# Altium footprint library FPGA_MG.PcbLib: 34 footprints (part 4 of 4)
Each footprint in its own frame and in the unit in brackets; x right, y up, seen from the top. Pads: shape width x height; smd on the part's side, far side on the other; paste and mask are expansions set on the pad; w line width, h text height; cw(c..) or ccw(c..) is an arc to the next point about the centre after c.
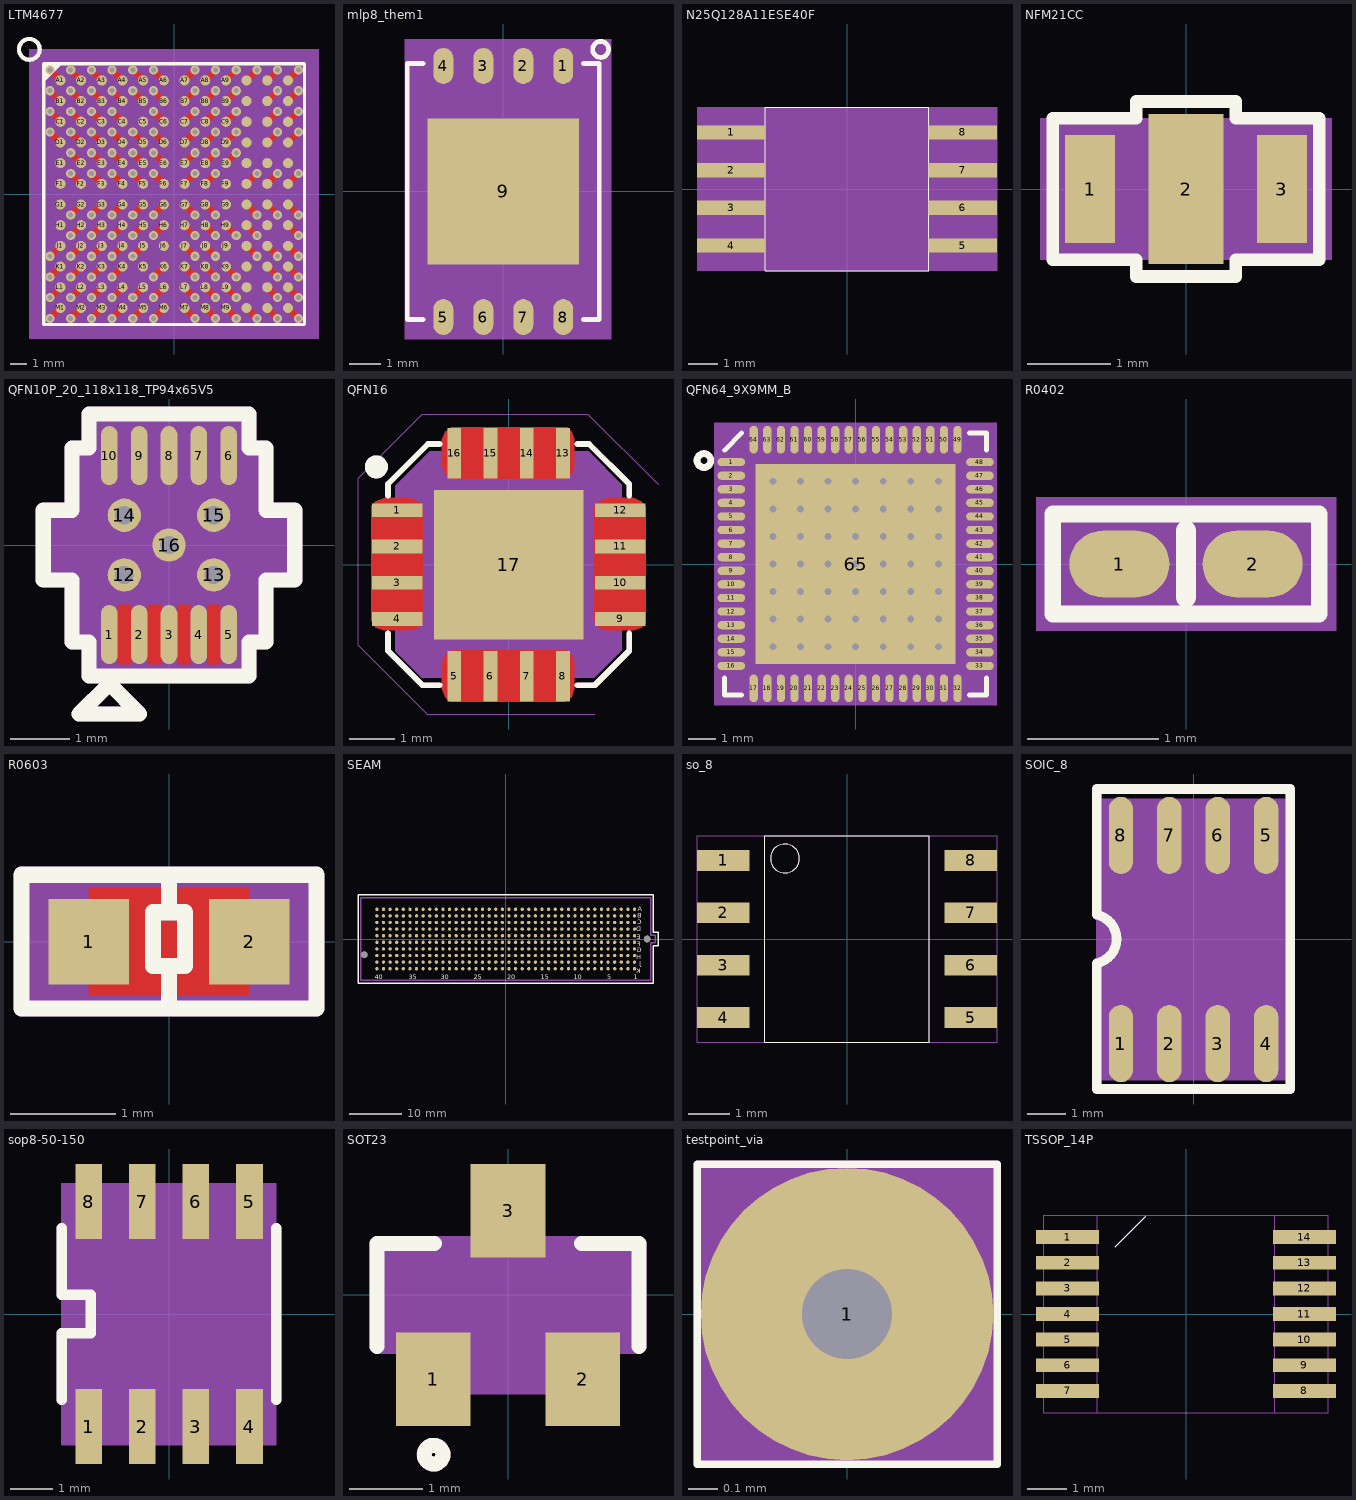
[diagram p3: the footprints below, top view; thin cyan lines are the x and y axes]

## LTM4677 [mm] "LTM4677"
pads (144):
  round 0.62 smd: A1(-6.985,6.985) A2(-5.715,6.985) A3(-4.445,6.985) A4(-3.175,6.985) A5(-1.905,6.985) A6(-0.635,6.985) A7(0.635,6.985) A8(1.905,6.985) A9(3.175,6.985) A10(4.445,6.985) A11(5.715,6.985) A12(6.985,6.985) B1(-6.985,5.715) B2(-5.715,5.715) B3(-4.445,5.715) B4(-3.175,5.715) B5(-1.905,5.715) B6(-0.635,5.715) B7(0.635,5.715) B8(1.905,5.715) B9(3.175,5.715) B10(4.445,5.715) B11(5.715,5.715) B12(6.985,5.715) C1(-6.985,4.445) C2(-5.715,4.445) C3(-4.445,4.445) C4(-3.175,4.445) C5(-1.905,4.445) C6(-0.635,4.445) C7(0.635,4.445) C8(1.905,4.445) C9(3.175,4.445) C10(4.445,4.445) C11(5.715,4.445) C12(6.985,4.445) D1(-6.985,3.175) D2(-5.715,3.175) D3(-4.445,3.175) D4(-3.175,3.175) D5(-1.905,3.175) D6(-0.635,3.175) D7(0.635,3.175) D8(1.905,3.175) D9(3.175,3.175) D10(4.445,3.175) D11(5.715,3.175) D12(6.985,3.175) E1(-6.985,1.905) E2(-5.715,1.905) E3(-4.445,1.905) E4(-3.175,1.905) E5(-1.905,1.905) E6(-0.635,1.905) E7(0.635,1.905) E8(1.905,1.905) E9(3.175,1.905) E10(4.445,1.905) E11(5.715,1.905) E12(6.985,1.905) F1(-6.985,0.635) F2(-5.715,0.635) F3(-4.445,0.635) F4(-3.175,0.635) F5(-1.905,0.635) F6(-0.635,0.635) F7(0.635,0.635) F8(1.905,0.635) F9(3.175,0.635) F10(4.445,0.635) F11(5.715,0.635) F12(6.985,0.635) G1(-6.985,-0.635) G2(-5.715,-0.635) G3(-4.445,-0.635) G4(-3.175,-0.635) G5(-1.905,-0.635) G6(-0.635,-0.635) G7(0.635,-0.635) G8(1.905,-0.635) G9(3.175,-0.635) G10(4.445,-0.635) G11(5.715,-0.635) G12(6.985,-0.635) H1(-6.985,-1.905) H2(-5.715,-1.905) H3(-4.445,-1.905) H4(-3.175,-1.905) H5(-1.905,-1.905) H6(-0.635,-1.905) H7(0.635,-1.905) H8(1.905,-1.905) H9(3.175,-1.905) H10(4.445,-1.905) H11(5.715,-1.905) H12(6.985,-1.905) J1(-6.985,-3.175) J2(-5.715,-3.175) J3(-4.445,-3.175) J4(-3.175,-3.175) J5(-1.905,-3.175) J6(-0.635,-3.175) J7(0.635,-3.175) J8(1.905,-3.175) J9(3.175,-3.175) J10(4.445,-3.175) J11(5.715,-3.175) J12(6.985,-3.175) K1(-6.985,-4.445) K2(-5.715,-4.445) K3(-4.445,-4.445) K4(-3.175,-4.445) K5(-1.905,-4.445) K6(-0.635,-4.445) K7(0.635,-4.445) K8(1.905,-4.445) K9(3.175,-4.445) K10(4.445,-4.445) K11(5.715,-4.445) K12(6.985,-4.445) L1(-6.985,-5.715) L2(-5.715,-5.715) L3(-4.445,-5.715) L4(-3.175,-5.715) L5(-1.905,-5.715) L6(-0.635,-5.715) L7(0.635,-5.715) L8(1.905,-5.715) L9(3.175,-5.715) L10(4.445,-5.715) L11(5.715,-5.715) L12(6.985,-5.715) M1(-6.985,-6.985) M2(-5.715,-6.985) M3(-4.445,-6.985) M4(-3.175,-6.985) M5(-1.905,-6.985) M6(-0.635,-6.985) M7(0.635,-6.985) M8(1.905,-6.985) M9(3.175,-6.985) M10(4.445,-6.985) M11(5.715,-6.985) M12(6.985,-6.985)
via -5.08,2.54 diameter 0.559 hole 0.305
via -5.08,1.27 diameter 0.559 hole 0.305
via -5.08,-1.27 diameter 0.559 hole 0.305
via -5.08,-2.54 diameter 0.559 hole 0.305
via 1.27,-1.27 diameter 0.559 hole 0.305
via 1.27,1.27 diameter 0.559 hole 0.305
via 3.81,2.54 diameter 0.559 hole 0.305
via -3.81,5.08 diameter 0.559 hole 0.305
via -3.81,3.81 diameter 0.559 hole 0.305
via 1.27,3.81 diameter 0.559 hole 0.305
via 2.54,-1.27 diameter 0.559 hole 0.305
via 2.54,1.27 diameter 0.559 hole 0.305
via -3.81,-5.08 diameter 0.559 hole 0.305
via -3.81,-3.81 diameter 0.559 hole 0.305
via 1.27,7.62 diameter 0.559 hole 0.305
via 5.08,7.62 diameter 0.559 hole 0.305
via 2.54,7.62 diameter 0.559 hole 0.305
via 3.81,7.62 diameter 0.559 hole 0.305
via -1.27,7.62 diameter 0.559 hole 0.305
via -3.81,7.62 diameter 0.559 hole 0.305
via 3.81,5.08 diameter 0.559 hole 0.305
via 2.54,5.08 diameter 0.559 hole 0.305
via 3.81,6.35 diameter 0.559 hole 0.305
via 2.54,6.35 diameter 0.559 hole 0.305
via 1.27,5.08 diameter 0.559 hole 0.305
via 1.27,6.35 diameter 0.559 hole 0.305
via -1.27,5.08 diameter 0.559 hole 0.305
via -1.27,6.35 diameter 0.559 hole 0.305
via -2.54,6.35 diameter 0.559 hole 0.305
via -3.81,6.35 diameter 0.559 hole 0.305
via 6.35,-1.27 diameter 0.559 hole 0.305
via 5.08,-1.27 diameter 0.559 hole 0.305
via 5.08,1.27 diameter 0.559 hole 0.305
via 7.62,-1.27 diameter 0.559 hole 0.305
via 5.08,-3.81 diameter 0.559 hole 0.305
via 5.08,-2.54 diameter 0.559 hole 0.305
via 5.08,-7.62 diameter 0.559 hole 0.305
via 3.81,-7.62 diameter 0.559 hole 0.305
via 2.54,-7.62 diameter 0.559 hole 0.305
via 1.27,-7.62 diameter 0.559 hole 0.305
via 3.81,-6.35 diameter 0.559 hole 0.305
via 2.54,-6.35 diameter 0.559 hole 0.305
via 1.27,-6.35 diameter 0.559 hole 0.305
via 3.81,-5.08 diameter 0.559 hole 0.305
via 2.54,-5.08 diameter 0.559 hole 0.305
via 1.27,-5.08 diameter 0.559 hole 0.305
via -3.81,-7.62 diameter 0.559 hole 0.305
via -2.54,-6.35 diameter 0.559 hole 0.305
via -3.81,-6.35 diameter 0.559 hole 0.305
via -1.27,-7.62 diameter 0.559 hole 0.305
via -1.27,-6.35 diameter 0.559 hole 0.305
via 6.35,7.62 diameter 0.559 hole 0.305
via 7.62,7.62 diameter 0.559 hole 0.305
via 7.62,3.81 diameter 0.559 hole 0.305
via 6.35,3.81 diameter 0.559 hole 0.305
via 7.62,5.08 diameter 0.559 hole 0.305
via 6.35,5.08 diameter 0.559 hole 0.305
via 7.62,6.35 diameter 0.559 hole 0.305
via 6.35,6.35 diameter 0.559 hole 0.305
via 7.62,1.27 diameter 0.559 hole 0.305
via 6.35,1.27 diameter 0.559 hole 0.305
via 7.62,-2.54 diameter 0.559 hole 0.305
via 6.35,-3.81 diameter 0.559 hole 0.305
via 7.62,-3.81 diameter 0.559 hole 0.305
via 6.35,-5.08 diameter 0.559 hole 0.305
via 7.62,-5.08 diameter 0.559 hole 0.305
via 6.35,-6.35 diameter 0.559 hole 0.305
via 7.62,-6.35 diameter 0.559 hole 0.305
via 6.35,-7.62 diameter 0.559 hole 0.305
via 7.62,-7.62 diameter 0.559 hole 0.305
via 1.27,2.54 diameter 0.559 hole 0.305
via 1.27,-2.54 diameter 0.559 hole 0.305
via 2.54,-2.54 diameter 0.559 hole 0.305
via 2.54,2.54 diameter 0.559 hole 0.305
via -1.27,2.54 diameter 0.559 hole 0.305
via -2.54,7.62 diameter 0.559 hole 0.305
via -3.81,-1.27 diameter 0.559 hole 0.305
via -6.35,-2.54 diameter 0.559 hole 0.305
via -2.54,-2.54 diameter 0.559 hole 0.305
via -1.27,-2.54 diameter 0.559 hole 0.305
via -6.35,-1.27 diameter 0.559 hole 0.305
via -6.35,2.54 diameter 0.559 hole 0.305
via 1.27,-3.81 diameter 0.559 hole 0.305
via -3.81,-2.54 diameter 0.559 hole 0.305
via -2.54,3.81 diameter 0.559 hole 0.305
via -6.35,1.27 diameter 0.559 hole 0.305
via -1.27,-5.08 diameter 0.559 hole 0.305
via -2.54,-1.27 diameter 0.559 hole 0.305
via -1.27,-1.27 diameter 0.559 hole 0.305
via 2.54,-3.81 diameter 0.559 hole 0.305
via -2.54,-3.81 diameter 0.559 hole 0.305
via 2.54,3.81 diameter 0.559 hole 0.305
via -1.27,3.81 diameter 0.559 hole 0.305
via -2.54,-7.62 diameter 0.559 hole 0.305
via -2.54,1.27 diameter 0.559 hole 0.305
via -2.54,2.54 diameter 0.559 hole 0.305
via -3.81,1.27 diameter 0.559 hole 0.305
via 3.81,-2.54 diameter 0.559 hole 0.305
via 3.81,3.81 diameter 0.559 hole 0.305
via -7.62,6.35 diameter 0.559 hole 0.305
via -6.35,6.35 diameter 0.559 hole 0.305
via -5.08,6.35 diameter 0.559 hole 0.305
via -7.62,5.08 diameter 0.559 hole 0.305
via -6.35,5.08 diameter 0.559 hole 0.305
via -5.08,5.08 diameter 0.559 hole 0.305
via -7.62,3.81 diameter 0.559 hole 0.305
via -6.35,3.81 diameter 0.559 hole 0.305
via -5.08,3.81 diameter 0.559 hole 0.305
via -5.08,7.62 diameter 0.559 hole 0.305
via -6.35,7.62 diameter 0.559 hole 0.305
via -7.62,7.62 diameter 0.559 hole 0.305
via -5.08,-7.62 diameter 0.559 hole 0.305
via -6.35,-7.62 diameter 0.559 hole 0.305
via -7.62,-7.62 diameter 0.559 hole 0.305
via -5.08,-6.35 diameter 0.559 hole 0.305
via -6.35,-6.35 diameter 0.559 hole 0.305
via -7.62,-6.35 diameter 0.559 hole 0.305
via -5.08,-5.08 diameter 0.559 hole 0.305
via -6.35,-5.08 diameter 0.559 hole 0.305
via -7.62,-5.08 diameter 0.559 hole 0.305
via -5.08,-3.81 diameter 0.559 hole 0.305
via -6.35,-3.81 diameter 0.559 hole 0.305
via -7.62,-3.81 diameter 0.559 hole 0.305
via -1.27,1.27 diameter 0.559 hole 0.305
via -3.81,2.54 diameter 0.559 hole 0.305
Top Layer:
  lines w0.381: -7.62,-7.62 -6.985,-6.985 ; -7.62,-6.35 -6.985,-5.715 ; -7.62,-5.08 -6.985,-4.445 ; -7.62,-3.81 -6.985,-3.175 ; -7.62,3.81 -6.985,3.175 ; -7.62,5.08 -6.985,4.445 ; -7.62,6.35 -6.985,5.715 ; -7.62,7.62 -6.985,6.985 ; -6.35,-7.62 -5.715,-6.985 ; -6.35,-6.35 -5.715,-5.715 ; -6.35,-5.08 -5.715,-4.445 ; -6.35,-3.81 -5.715,-3.175 ; -6.35,-2.54 -5.715,-1.905 ; -6.35,-1.27 -5.715,-0.635 ; -6.35,1.27 -5.715,0.635 ; -6.35,2.54 -5.715,1.905 ; -6.35,3.81 -5.715,3.175 ; -6.35,5.08 -5.715,4.445 ; -6.35,6.35 -5.715,5.715 ; -6.35,7.62 -5.715,6.985 ; -5.08,-7.62 -4.445,-6.985 ; -5.08,-6.35 -4.445,-5.715 ; -5.08,-5.08 -4.445,-4.445 ; -5.08,-3.81 -4.445,-3.175 ; -5.08,-2.54 -4.445,-1.905 ; -5.08,-1.27 -4.445,-0.635 ; -5.08,1.27 -4.445,0.635 ; -5.08,2.54 -4.445,1.905 ; -5.08,3.81 -4.445,3.175 ; -5.08,5.08 -4.445,4.445 ; -5.08,6.35 -4.445,5.715 ; -5.08,7.62 -4.445,6.985 ; -3.81,-7.62 -3.175,-6.985 ; -3.81,-6.35 -3.175,-5.715 ; -3.81,-5.08 -3.175,-4.445 ; -3.81,-3.81 -3.175,-3.175 ; -3.81,-2.54 -3.175,-1.905 ; -3.81,-1.27 -3.175,-0.635 ; -3.81,1.27 -3.175,0.635 ; -3.81,2.54 -3.175,1.905 ; -3.81,3.81 -3.175,3.175 ; -3.81,5.08 -3.175,4.445 ; -3.81,6.35 -3.175,5.715 ; -3.81,7.62 -3.175,6.985 ; -2.54,-7.62 -1.905,-6.985 ; -2.54,-6.35 -1.905,-5.715 ; -2.54,-3.81 -1.905,-3.175 ; -2.54,-2.54 -1.905,-1.905 ; -2.54,-1.27 -1.905,-0.635 ; -2.54,1.27 -1.905,0.635 ; -2.54,2.54 -1.905,1.905 ; -2.54,3.81 -1.905,3.175 ; -2.54,6.35 -1.905,5.715 ; -2.54,7.62 -1.905,6.985 ; -1.27,-7.62 -0.635,-6.985 ; -1.27,-6.35 -0.635,-5.715 ; -1.27,-5.08 -0.635,-4.445 ; -1.27,-2.54 -0.635,-1.905 ; -1.27,-1.27 -0.635,-0.635 ; -1.27,1.27 -0.635,0.635 ; -1.27,2.54 -0.635,1.905 ; -1.27,3.81 -0.635,3.175 ; -1.27,5.08 -0.635,4.445 ; -1.27,6.35 -0.635,5.715 ; -1.27,7.62 -0.635,6.985 ; 0.635,-6.985 1.27,-7.62 ; 0.635,-5.715 1.27,-6.35 ; 0.635,-4.445 1.27,-5.08 ; 0.635,-3.175 1.27,-3.81 ; 0.635,-1.905 1.27,-2.54 ; 0.635,-0.635 1.27,-1.27 ; 0.635,0.635 1.27,1.27 ; 0.635,1.905 1.27,2.54 ; 0.635,3.175 1.27,3.81 ; 0.635,4.445 1.27,5.08 ; 0.635,5.715 1.27,6.35 ; 0.635,6.985 1.27,7.62 ; 1.905,-6.985 2.54,-7.62 ; 1.905,-5.715 2.54,-6.35 ; 1.905,-4.445 2.54,-5.08 ; 1.905,-3.175 2.54,-3.81 ; 1.905,-1.905 2.54,-2.54 ; 1.905,-0.635 2.54,-1.27 ; 1.905,0.635 2.54,1.27 ; 1.905,1.905 2.54,2.54 ; 1.905,3.175 2.54,3.81 ; 1.905,4.445 2.54,5.08 ; 1.905,5.715 2.54,6.35 ; 1.905,6.985 2.54,7.62 ; 3.175,-6.985 3.81,-7.62 ; 3.175,-5.715 3.81,-6.35 ; 3.175,-4.445 3.81,-5.08 ; 3.175,-1.905 3.81,-2.54 ; 3.175,1.905 3.81,2.54 ; 3.175,3.175 3.81,3.81 ; 3.175,4.445 3.81,5.08 ; 3.175,5.715 3.81,6.35 ; 3.175,6.985 3.81,7.62 ; 4.445,-6.985 5.08,-7.62 ; 4.445,-3.175 5.08,-3.81 ; 4.445,-1.905 5.08,-2.54 ; 4.445,-0.635 5.08,-1.27 ; 4.445,0.635 5.08,1.27 ; 4.445,6.985 5.08,7.62 ; 5.715,-6.985 6.35,-7.62 ; 5.715,-5.715 6.35,-6.35 ; 5.715,-4.445 6.35,-5.08 ; 5.715,-3.175 6.35,-3.81 ; 5.715,-0.635 6.35,-1.27 ; 5.715,0.635 6.35,1.27 ; 5.715,3.175 6.35,3.81 ; 5.715,4.445 6.35,5.08 ; 5.715,5.715 6.35,6.35 ; 5.715,6.985 6.35,7.62 ; 6.985,-6.985 7.62,-7.62 ; 6.985,-5.715 7.62,-6.35 ; 6.985,-4.445 7.62,-5.08 ; 6.985,-3.175 7.62,-3.81 ; 6.985,-1.905 7.62,-2.54 ; 6.985,-0.635 7.62,-1.27 ; 6.985,0.635 7.62,1.27 ; 6.985,3.175 7.62,3.81 ; 6.985,4.445 7.62,5.08 ; 6.985,5.715 7.62,6.35 ; 6.985,6.985 7.62,7.62
Top Overlay:
  pour cut-out: -8,8 -6.857,8 -8,6.857
  lines w0.2: -8,-8 8,-8 8,8 -8,8 -8,-8
  lines w0.254: -9.525,8.89 ccw(c-8.89,8.89) -8.89,8.255 ccw(c-8.89,8.89) -8.255,8.89 ccw(c-8.89,8.89) -8.89,9.525 ccw(c-8.89,8.89) -9.525,8.89
  text ".Designator" at -8.466,-0.002 h0.64
Mechanical 5:
  lines w0.2: -8,-8 8,-8 8,8 -8,8 -8,-8
  lines w0.254: -9.525,8.89 cw(c-8.89,8.89) -8.89,9.525 cw(c-8.89,8.89) -8.255,8.89 cw(c-8.89,8.89) -8.89,8.255 cw(c-8.89,8.89) -9.525,8.89
  text "U100" at -8.466,-0.002 h0.64
Mechanical 14:
  text "B6" at -0.635,5.207 h0.64
  text "E3" at -4.445,1.397 h0.64
  text "F3" at -4.445,0.127 h0.64
  text "G3" at -4.445,-1.143 h0.64
  text "H3" at -4.445,-2.413 h0.64
  text "G7" at 0.635,-1.143 h0.64
  text "F7" at 0.635,0.127 h0.64
  text "E9" at 3.175,1.397 h0.64
  text "C4" at -3.175,3.937 h0.64
  text "D4" at -3.175,2.667 h0.64
  text "D7" at 0.635,2.667 h0.64
  text "G8" at 1.905,-1.143 h0.64
  text "F8" at 1.905,0.127 h0.64
  text "K4" at -3.175,-4.953 h0.64
  text "J4" at -3.175,-3.683 h0.64
  text "A7" at 0.635,6.477 h0.64
  text "A10" at 4.445,6.223 h0.64
  text "A8" at 1.905,6.477 h0.64
  text "A9" at 3.175,6.477 h0.64
  text "A6" at -0.635,6.477 h0.64
  text "A4" at -3.175,6.477 h0.64
  text "C9" at 3.175,3.937 h0.64
  text "C8" at 1.905,3.937 h0.64
  text "B9" at 3.175,5.207 h0.64
  text "B8" at 1.905,5.207 h0.64
  text "C7" at 0.635,3.937 h0.64
  text "B7" at 0.635,5.207 h0.64
  text "C6" at -0.635,3.937 h0.64
  text "B5" at -1.905,5.207 h0.64
  text "B4" at -3.175,5.207 h0.64
  text "G11" at 5.715,-1.397 h0.64
  text "G10" at 4.445,-1.397 h0.64
  text "F10" at 4.445,-0.127 h0.64
  text "G12" at 6.985,-1.397 h0.64
  text "J10" at 4.445,-3.937 h0.64
  text "H10" at 4.445,-2.667 h0.64
  text "M10" at 4.445,-7.747 h0.64
  text "M9" at 3.175,-7.493 h0.64
  text "M8" at 1.905,-7.493 h0.64
  text "M7" at 0.635,-7.493 h0.64
  text "L9" at 3.175,-6.223 h0.64
  text "L8" at 1.905,-6.223 h0.64
  text "L7" at 0.635,-6.223 h0.64
  text "K9" at 3.175,-4.953 h0.64
  text "K8" at 1.905,-4.953 h0.64
  text "K7" at 0.635,-4.953 h0.64
  text "M4" at -3.175,-7.493 h0.64
  text "L5" at -1.905,-6.223 h0.64
  text "L4" at -3.175,-6.223 h0.64
  text "M6" at -0.635,-7.493 h0.64
  text "L6" at -0.635,-6.223 h0.64
  text "A11" at 5.715,6.223 h0.64
  text "A12" at 6.985,6.223 h0.64
  text "D12" at 6.985,2.413 h0.64
  text "D11" at 5.715,2.413 h0.64
  text "C12" at 6.985,3.683 h0.64
  text "C11" at 5.715,3.683 h0.64
  text "B12" at 6.985,4.953 h0.64
  text "B11" at 5.715,4.953 h0.64
  text "F12" at 6.985,-0.127 h0.64
  text "F11" at 5.715,-0.127 h0.64
  text "E12" at 6.985,1.143 h0.64
  text "H12" at 6.985,-2.667 h0.64
  text "J11" at 5.715,-3.937 h0.64
  text "J12" at 6.985,-3.937 h0.64
  text "K11" at 5.715,-5.207 h0.64
  text "K12" at 6.985,-5.207 h0.64
  text "L11" at 5.715,-6.477 h0.64
  text "L12" at 6.985,-6.477 h0.64
  text "M11" at 5.715,-7.747 h0.64
  text "M12" at 6.985,-7.747 h0.64
  text "E7" at 0.635,1.397 h0.64
  text "H7" at 0.635,-2.413 h0.64
  text "H8" at 1.905,-2.413 h0.64
  text "E8" at 1.905,1.397 h0.64
  text "E6" at -0.635,1.397 h0.64
  text "A5" at -1.905,6.477 h0.64
  text "G4" at -3.175,-1.143 h0.64
  text "H1" at -6.985,-2.413 h0.64
  text "H2" at -5.715,-2.413 h0.64
  text "H5" at -1.905,-2.413 h0.64
  text "H6" at -0.635,-2.413 h0.64
  text "G1" at -6.985,-1.143 h0.64
  text "G2" at -5.715,-1.143 h0.64
  text "E1" at -6.985,1.397 h0.64
  text "E2" at -5.715,1.397 h0.64
  text "J7" at 0.635,-3.683 h0.64
  text "H4" at -3.175,-2.413 h0.64
  text "D5" at -1.905,2.667 h0.64
  text "C5" at -1.905,3.937 h0.64
  text "F1" at -6.985,0.127 h0.64
  text "F2" at -5.715,0.127 h0.64
  text "K6" at -0.635,-4.953 h0.64
  text "G5" at -1.905,-1.143 h0.64
  text "G6" at -0.635,-1.143 h0.64
  text "J8" at 1.905,-3.683 h0.64
  text "J5" at -1.905,-3.683 h0.64
  text "K5" at -1.905,-4.953 h0.64
  text "D8" at 1.905,2.667 h0.64
  text "D6" at -0.635,2.667 h0.64
  text "M5" at -1.905,-7.493 h0.64
  text "F5" at -1.905,0.127 h0.64
  text "E5" at -1.905,1.397 h0.64
  text "J9" at 3.175,-3.683 h0.64
  text "E10" at 4.445,1.143 h0.64
  text "D10" at 4.445,2.413 h0.64
  text "J6" at -0.635,-3.683 h0.64
  text "L10" at 4.445,-6.477 h0.64
  text "B10" at 4.445,4.953 h0.64
  text "G9" at 3.175,-1.143 h0.64
  text "F9" at 3.175,0.127 h0.64
  text "K10" at 4.445,-5.207 h0.64
  text "H11" at 5.715,-2.667 h0.64
  text "E11" at 5.715,1.143 h0.64
  text "C10" at 4.445,3.683 h0.64
  text "F4" at -3.175,0.127 h0.64
  text "H9" at 3.175,-2.413 h0.64
  text "D9" at 3.175,2.667 h0.64
  text "B1" at -6.985,5.207 h0.64
  text "B2" at -5.715,5.207 h0.64
  text "B3" at -4.445,5.207 h0.64
  text "C1" at -6.985,3.937 h0.64
  text "C2" at -5.715,3.937 h0.64
  text "C3" at -4.445,3.937 h0.64
  text "D1" at -6.985,2.667 h0.64
  text "D2" at -5.715,2.667 h0.64
  text "D3" at -4.445,2.667 h0.64
  text "A3" at -4.445,6.477 h0.64
  text "A2" at -5.715,6.477 h0.64
  text "A1" at -6.985,6.477 h0.64
  text "M3" at -4.445,-7.493 h0.64
  text "M2" at -5.715,-7.493 h0.64
  text "M1" at -6.985,-7.493 h0.64
  text "L3" at -4.445,-6.223 h0.64
  text "L2" at -5.715,-6.223 h0.64
  text "L1" at -6.985,-6.223 h0.64
  text "K3" at -4.445,-4.953 h0.64
  text "K2" at -5.715,-4.953 h0.64
  text "K1" at -6.985,-4.953 h0.64
  text "J3" at -4.445,-3.683 h0.64
  text "J2" at -5.715,-3.683 h0.64
  text "J1" at -6.985,-3.683 h0.64
  text "F6" at -0.635,0.127 h0.64
  text "E4" at -3.175,1.397 h0.64
Mechanical 16:
  region: -8.89,-8.89 -8.89,8.89 8.89,8.89 8.89,-8.89
  pour cut-out: -8.25,-8.25 -8.25,8.25 8.25,8.25 8.25,-8.25
  pour cut-out: -8,8 -6.857,8 -8,6.857
  lines w0.1: -8,-8 8,-8 8,8 -8,8 -8,-8
Mechanical 17:
  text "LTM4677IY" at 0,5.334 h0.64
3D body: height 3.81, standoff 0, extent -8.89,-8.89 8.89,8.89

## mlp8_them1 [mil] "MLP8_THEM1"
pads (9):
  oval 25x45 smd: 1(75,157) 2(25,157) 3(-25,157) 4(-75,157) 5(-75,-157) 6(-25,-157) 7(25,-157) 8(75,-157)
  rect 188.98x183.07 smd: 9(0,0)
Top Overlay:
  lines w6: -100,-160 -120,-160 -120,160 -100,160 ; 100,-160 120,-160 120,160 100,160 ; 111.81,177.66 ccw(c121.81,177.66) 121.81,167.66 ccw(c121.81,177.66) 131.81,177.66 ccw(c121.81,177.66) 121.81,187.66 ccw(c121.81,177.66) 111.81,177.66
Mechanical 5:
  lines w6: -100,-160 -120,-160 -120,160 -100,160 ; 100,-160 120,-160 120,160 100,160 ; 111.81,177.66 cw(c121.81,177.66) 121.81,187.66 cw(c121.81,177.66) 131.81,177.66 cw(c121.81,177.66) 121.81,167.66 cw(c121.81,177.66) 111.81,177.66
Mechanical 14:
  text "9" at 0,-20 h25
  text "4" at -75,153 h10
  text "6" at -25,-161 h10
  text "2" at 25,153 h10
  text "7" at 25,-161 h10
  text "5" at -75,-161 h10
  text "1" at 75,153 h10
  text "3" at -25,153 h10
  text "8" at 75,-161 h10
Mechanical 16:
  region: -123,-184.5 134.81,-184.5 134.81,190.66 -123,190.66
  lines w6: -100,-160 -120,-160 -120,160 -100,160 ; 100,-160 120,-160 120,160 100,160
3D body: height 150, standoff 0, extent -123,-184.5 134.81,190.66

## N25Q128A11ESE40F [mm] "N25Q128A11ESE40F"
pads (8):
  rect 2.3x0.48 smd: 1(-3.9,1.905) 2(-3.9,0.635) 3(-3.9,-0.635) 4(-3.9,-1.905) 5(3.9,-1.905) 6(3.9,-0.635) 7(3.9,0.635) 8(3.9,1.905)
Top Overlay:
  lines w0.025: -2.75,-2.75 2.75,-2.75 2.75,2.75 -2.75,2.75 -2.75,-2.75
Mechanical 14:
  text "8" at 3.697,1.905 h0.51
  text "5" at 3.697,-1.905 h0.51
  text "2" at -4.103,0.635 h0.51
  text "6" at 3.697,-0.635 h0.51
  text "7" at 3.697,0.635 h0.51
  text "3" at -4.103,-0.635 h0.51
  text "1" at -4.103,1.905 h0.51
  text "4" at -4.103,-1.905 h0.51
Mechanical 16:
  pour cut-out: -5.055,-2.75 -5.055,2.75 5.055,2.75 5.055,-2.75
  region: -5.055,-2.75 -5.055,2.75 5.055,2.75 5.055,-2.75
  lines w0.025: -2.75,-2.75 2.75,-2.75 2.75,2.75 -2.75,2.75 -2.75,-2.75
Mechanical 20:
  text ".Designator" at -0.144,0 h0.13
3D body: height 3.81, standoff 0, extent -5.055,-2.75 5.055,2.75

## NFM21CC [mm] "NFM21CC"
pads (3):
  rect 0.6x1.3 smd: 1(-1.15,0) 3(1.15,0)
  rect 0.9x1.8 smd: 2(0,0)
Top Overlay:
  lines w0.15: -1.6,-0.85 -0.6,-0.85 -0.6,-1.05 0.6,-1.05 0.6,-0.85 1.6,-0.85 1.6,0.85 0.6,0.85 0.6,1.05 -0.6,1.05 -0.6,0.85 -1.6,0.85 -1.6,-0.85
Mechanical 14:
  text "2" at 0,-0.203 h0.25
  text "1" at -1.15,-0.203 h0.25
  text "3" at 1.15,-0.203 h0.25
Mechanical 16:
  region: -1.75,0.85 -1.75,-0.85 1.75,-0.85 1.75,0.85
3D body: height 3.81, standoff 0, extent -1.75,-0.85 1.75,0.85

## QFN10P_20_118x118_TP94x65V5 [mil] "QFN10P_20_118X118_TP94X65V5"
pads (16):
  oval 11x39 smd: 1(-39.37,-59.06) 2(-19.69,-59.06) 3(0,-59.06) 4(19.69,-59.06) 5(39.37,-59.06) 6(39.37,59.06) 7(19.69,59.06) 8(0,59.06) 9(-19.69,59.06) 10(-39.37,59.06)
  oct 1x1 smd: 11(0,0)
  round 22 hole 12: 12(-29.53,-19.69) 13(29.53,-19.69) 14(-29.53,19.69) 15(29.53,19.69) 16(0,0)
Top Layer:
  region: -33.87,-78.56 -29.53,-78.56 -29.53,-39.56 -33.87,-39.56
  region: -29.53,-78.56 -25.19,-78.56 -25.19,-39.56 -29.53,-39.56
  region: -14.19,-78.56 -9.85,-78.56 -9.85,-39.56 -14.19,-39.56
  region: -9.84,-78.56 -5.5,-78.56 -5.5,-39.56 -9.84,-39.56
  region: 5.5,-78.56 9.84,-78.56 9.84,-39.56 5.5,-39.56
  region: 9.85,-78.56 14.19,-78.56 14.19,-39.56 9.85,-39.56
  region: 25.19,-78.56 29.53,-78.56 29.53,-39.56 25.19,-39.56
  region: 29.53,-78.56 33.87,-78.56 33.87,-39.56 29.53,-39.56
Top Overlay:
  lines w10: -83,-23 -64.06,-23 -64.06,-64.06 -52.87,-64.06 -52.87,-86.56 52.87,-86.56 52.87,-64.06 64.06,-64.06 64.06,-23 83,-23 83,23 64.06,23 64.06,64.06 52.87,64.06 52.87,86.56 -52.87,86.56 -52.87,64.06 -64.06,64.06 -64.06,23 -83,23 -83,-23 ; -59.37,-111.56 -19.37,-111.56 -39.37,-91.56 -59.37,-111.56
Mechanical 5:
  lines w10: -83,-23 -83,23 -64.06,23 -64.06,64.06 -52.87,64.06 -52.87,86.56 52.87,86.56 52.87,64.06 64.06,64.06 64.06,23 83,23 83,-23 64.06,-23 64.06,-64.06 52.87,-64.06 52.87,-86.56 -52.87,-86.56 -52.87,-64.06 -64.06,-64.06 -64.06,-23 -83,-23 ; -59.37,-111.56 -39.37,-91.56 -19.37,-111.56 -59.37,-111.56
Mechanical 14:
  text "11" at 22.4,0 h28
  text "12" at -7.13,-19.69 h28
  text "15" at 51.93,19.69 h28
  text "16" at 22.4,0 h28
  text "14" at -7.13,19.69 h28
  text "13" at 51.93,-19.69 h28
  text "8" at 11.2,59.06 h28
  text "4" at 30.89,-59.06 h28
  text "10" at -16.97,59.06 h28
  text "6" at 50.57,59.06 h28
  text "5" at 50.57,-59.06 h28
  text "3" at 11.2,-59.06 h28
  text "2" at -8.49,-59.06 h28
  text "9" at -8.49,59.06 h28
  text "7" at 30.89,59.06 h28
  text "1" at -28.17,-59.06 h28
Mechanical 16:
  region: -59.06,-59.06 59.06,-59.06 59.06,59.06 -59.06,59.06
  pour cut-out: 52.87,86.56 52.87,64.06 64.06,64.06 64.06,23 83,23 83,-23 64.06,-23 64.06,-64.06 52.87,-64.06 52.87,-86.56 -52.87,-86.56 -52.87,-64.06 -64.06,-64.06 -64.06,-23 -83,-23 -83,23 -64.06,23 -64.06,64.06 -52.87,64.06 -52.87,86.56
  lines w1: -59.06,-59.06 59.06,-59.06 59.06,59.06 -59.06,59.06 -59.06,-59.06
Mechanical 17:
  text ".Designator" at 6,1.67 h5
3D body: height 150, standoff 0, extent -59.06,-59.06 59.06,59.06

## QFN16 [mil] "QFN16"
pads (17):
  rect 44x12 smd: 1(-97,47.24) 2(-97,15.75) 3(-97,-15.75) 4(-97,-47.24) 9(97,-47.24) 10(97,-15.75) 11(97,15.75) 12(97,47.24)
  rect 12x44 smd: 5(-47.24,-97) 6(-15.75,-97) 7(15.75,-97) 8(47.24,-97) 13(47.24,97) 14(15.75,97) 15(-15.75,97) 16(-47.24,97)
  rect 130x130 smd: 17(0,0)
Top Layer:
  region: -74.5,50 -74.5,-51 -78.5,-55 -84.5,-57 -108.5,-57 -115.5,-55 -119.5,-49 -119.5,51 -115.5,55 -107.5,58 -85.5,58 -78.5,55
  region: 119.5,50 119.5,-51 115.5,-55 109.5,-57 85.5,-57 78.5,-55 74.5,-49 74.5,51 78.5,55 86.5,58 108.5,58 115.5,55
  region: -50,-74.5 51,-74.5 55,-78.5 57,-84.5 57,-108.5 55,-115.5 49,-119.5 -51,-119.5 -55,-115.5 -58,-107.5 -58,-85.5 -55,-78.5
  region: -50,119.5 51,119.5 55,115.5 57,109.5 57,85.5 55,78.5 49,74.5 -51,74.5 -55,78.5 -58,86.5 -58,108.5 -55,115.5
Top Overlay:
  circle w10: c-115,85 r5
  lines w5: -105,-60 -105,-75 -75,-105 -60,-105 ; -105,60 -105,70 -70,105 -60,105 ; 60,-105 75,-105 105,-75 105,-60 ; 60,105 70,105 105,70 105,60
Mechanical 5:
  circle w10: c-115,85 r5
  lines w5: -105,-60 -105,-75 -75,-105 -60,-105 ; -105,60 -105,70 -70,105 -60,105 ; 60,-105 75,-105 105,-75 105,-60 ; 60,105 70,105 105,70 105,60
Mechanical 14:
  text "1" at -65,47.24 h80
  text "2" at -65,15.75 h80
  text "3" at -65,-15.75 h80
  text "4" at -65,-47.24 h80
  text "5" at -15.24,-97 h80
  text "6" at 16.25,-97 h80
  text "7" at 47.75,-97 h80
Mechanical 16:
  region: 98.43,-74.58 75,-98 74.58,-98.43 -75.58,-98.43 -76,-98 -98.43,-75.58 -98.43,68.58 -98,69 -68.58,98.43 69.58,98.43 70,98 98.43,69.58
  lines w1: 75,-130 -71,-130 -71.49,-129.48 -131,-70 -131,75 -75,131 -65,131 69,131 130,70
Mechanical 17:
  text ".Designator" at 6,-1.67 h5
3D body: height 150, standoff 0, extent -98.43,-98.43 98.43,98.43

## QFN64_9X9MM_B [mil] "QFN64_9X9MM_B"
pads (65):
  oval 40x12 smd: 1(-180.3,147.75) 2(-180.3,128.05) 3(-180.3,108.35) 4(-180.3,88.65) 5(-180.3,68.95) 6(-180.3,49.25) 7(-180.3,29.55) 8(-180.3,9.85) 9(-180.3,-9.85) 10(-180.3,-29.55) 11(-180.3,-49.25) 12(-180.3,-68.95) 13(-180.3,-88.65) 14(-180.3,-108.35) 15(-180.3,-128.05) 16(-180.3,-147.75) 33(180.3,-147.75) 34(180.3,-128.05) 35(180.3,-108.35) 36(180.3,-88.65) 37(180.3,-68.95) 38(180.3,-49.25) 39(180.3,-29.55) 40(180.3,-9.85) 41(180.3,9.85) 42(180.3,29.55) 43(180.3,49.25) 44(180.3,68.95) 45(180.3,88.65) 46(180.3,108.35) 47(180.3,128.05) 48(180.3,147.75)
  oval 12x40 smd: 17(-147.75,-180.3) 18(-128.05,-180.3) 19(-108.35,-180.3) 20(-88.65,-180.3) 21(-68.95,-180.3) 22(-49.25,-180.3) 23(-29.55,-180.3) 24(-9.85,-180.3) 25(9.85,-180.3) 26(29.55,-180.3) 27(49.25,-180.3) 28(68.95,-180.3) 29(88.65,-180.3) 30(108.35,-180.3) 31(128.05,-180.3) 32(147.75,-180.3) 49(147.75,180.3) 50(128.05,180.3) 51(108.35,180.3) 52(88.65,180.3) 53(68.95,180.3) 54(49.25,180.3) 55(29.55,180.3) 56(9.85,180.3) 57(-9.85,180.3) 58(-29.55,180.3) 59(-49.25,180.3) 60(-68.95,180.3) 61(-88.65,180.3) 62(-108.35,180.3) 63(-128.05,180.3) 64(-147.75,180.3)
  rect 290x290 smd: 65(0,0)
via 120,-120 diameter 18 hole 10
via 80,120 diameter 18 hole 10
via 80,80 diameter 18 hole 10
via 80,40 diameter 18 hole 10
via 80,0 diameter 18 hole 10
via 80,-40 diameter 18 hole 10
via 80,-80 diameter 18 hole 10
via 80,-120 diameter 18 hole 10
via 40,-120 diameter 18 hole 10
via 0,-120 diameter 18 hole 10
via -40,-120 diameter 18 hole 10
via -80,-120 diameter 18 hole 10
via -120,-120 diameter 18 hole 10
via 120,120 diameter 18 hole 10
via 120,80 diameter 18 hole 10
via 120,40 diameter 18 hole 10
via 120,0 diameter 18 hole 10
via 120,-40 diameter 18 hole 10
via 120,-80 diameter 18 hole 10
via 40,-80 diameter 18 hole 10
via 0,-80 diameter 18 hole 10
via -40,-80 diameter 18 hole 10
via -80,-80 diameter 18 hole 10
via -120,-80 diameter 18 hole 10
via -80,-40 diameter 18 hole 10
via 0,-40 diameter 18 hole 10
via 0,0 diameter 18 hole 10
via 0,40 diameter 18 hole 10
via 0,80 diameter 18 hole 10
via 0,120 diameter 18 hole 10
via -80,120 diameter 18 hole 10
via -80,80 diameter 18 hole 10
via -80,40 diameter 18 hole 10
via -80,0 diameter 18 hole 10
via -40,0 diameter 18 hole 10
via 40,0 diameter 18 hole 10
via 40,80 diameter 18 hole 10
via -40,80 diameter 18 hole 10
via -40,120 diameter 18 hole 10
via -40,-40 diameter 18 hole 10
via 40,40 diameter 18 hole 10
via -40,40 diameter 18 hole 10
via 40,-40 diameter 18 hole 10
via 40,120 diameter 18 hole 10
via -120,0 diameter 18 hole 10
via -120,80 diameter 18 hole 10
via -120,40 diameter 18 hole 10
via -120,120 diameter 18 hole 10
via -120,-40 diameter 18 hole 10
Top Overlay:
  lines w7: -190,-165 -190,-190 -165,-190 ; -190,165 -165,190 ; 165,-190 190,-190 190,-165 ; 165,190 190,190 190,165
  lines w10: -230,150 cw(c-220,150) -220,160 cw(c-220,150) -210,150 cw(c-220,150) -220,140 cw(c-220,150) -230,150
Top Paste:
  pour cut-out: 135,-135 75,-135 75,-75 135,-75
  pour cut-out: 65,-135 5,-135 5,-75 65,-75
  pour cut-out: 65,-65 5,-65 5,-5 65,-5
  pour cut-out: 135,-65 75,-65 75,-5 135,-5
  pour cut-out: 135,5 75,5 75,65 135,65
  pour cut-out: 65,5 5,5 5,65 65,65
  pour cut-out: 135,75 75,75 75,135 135,135
  pour cut-out: 65,75 5,75 5,135 65,135
  pour cut-out: -5,75 -65,75 -65,135 -5,135
  pour cut-out: -5,5 -65,5 -65,65 -5,65
  pour cut-out: -5,-65 -65,-65 -65,-5 -5,-5
  pour cut-out: -5,-135 -65,-135 -65,-75 -5,-75
  pour cut-out: -75,75 -135,75 -135,135 -75,135
  pour cut-out: -75,5 -135,5 -135,65 -75,65
  pour cut-out: -75,-65 -135,-65 -135,-5 -75,-5
  pour cut-out: -75,-135 -135,-135 -135,-75 -75,-75
Mechanical 5:
  lines w7: -190,-165 -190,-190 -165,-190 ; -190,165 -165,190 ; 165,-190 190,-190 190,-165 ; 165,190 190,190 190,165
  lines w10: -230,150 ccw(c-220,150) -220,140 ccw(c-220,150) -210,150 ccw(c-220,150) -220,160 ccw(c-220,150) -230,150
  text "U74" at 30,230 h25
Mechanical 14:
  text "25" at 65.85,-180.3 h35
  text "14" at -124.3,-108.35 h35
  text "15" at -124.3,-128.05 h35
  text "65" at 40,0 h25
  text "57" at 46.15,180.3 h35
  text "52" at 144.65,180.3 h35
  text "19" at -52.35,-180.3 h35
  text "59" at 6.75,180.3 h35
  text "6" at -152.3,49.25 h35
  text "62" at -52.35,180.3 h35
  text "18" at -72.05,-180.3 h35
  text "16" at -124.3,-147.75 h35
  text "51" at 164.35,180.3 h35
  text "4" at -152.3,88.65 h35
  text "53" at 124.95,180.3 h35
  text "1" at -152.3,147.75 h35
  text "54" at 105.25,180.3 h35
  text "3" at -152.3,108.35 h35
  text "55" at 85.55,180.3 h35
  text "56" at 65.85,180.3 h35
  text "22" at 6.75,-180.3 h35
  text "26" at 85.55,-180.3 h35
  text "29" at 144.65,-180.3 h35
  text "24" at 46.15,-180.3 h35
  text "21" at -12.95,-180.3 h35
  text "9" at -152.3,-9.85 h35
  text "7" at -152.3,29.55 h35
  text "61" at -32.65,180.3 h35
  text "17" at -91.75,-180.3 h35
  text "28" at 124.95,-180.3 h35
  text "60" at -12.95,180.3 h35
  text "23" at 26.45,-180.3 h35
  text "64" at -91.75,180.3 h35
  text "20" at -32.65,-180.3 h35
  text "27" at 105.25,-180.3 h35
  text "8" at -152.3,9.85 h35
  text "30" at 164.35,-180.3 h35
  text "12" at -124.3,-68.95 h35
  text "5" at -152.3,68.95 h35
  text "63" at -72.05,180.3 h35
  text "13" at -124.3,-88.65 h35
  text "58" at 26.45,180.3 h35
  text "11" at -124.3,-49.25 h35
  text "2" at -152.3,128.05 h35
  text "10" at -124.3,-29.55 h35
Mechanical 16:
  region: 205,-205 205,205 -205,205 -205,-205
  lines w1: -180,-180 180,-180 180,180 -160,180 -180,160 -180,-180
3D body: height 150, standoff 0, extent -205,-205 205,205

## R0402 [mil] "R0402"
pads (2):
  oval 30x20 smd: 1(-20,0) 2(20,0)
Top Overlay:
  lines w5: -40,-15 -40,15 40,15 40,-15 -40,-15
  lines w6: 0,-10 0,10
Mechanical 5:
  lines w5: -40,-15 -40,15 40,15 40,-15 -40,-15
  lines w6: 0,-10 0,10
Mechanical 14:
  text "1" at -10,0 h25
  text "2" at 30,0 h25
Mechanical 16:
  region: -37,-12 37,-12 37,12 -37,12
  pour cut-out: 45,-20 45,20 -45,20 -45,-20
  lines w1: -20,-10 -20,10 20,10 20,-10 -20,-10
  lines w5: -40,-15 -40,15 40,15 40,-15 -40,-15
  lines w6: 0,-10 0,10
3D body: height 150, standoff 0, extent -37,-12 37,12

## R0603 [mil] "R0603"
pads (2):
  rect 30x32 smd: 1(-30,0) 2(30,0)
Top Layer:
  region: -10,-20 -10,20 10,20 10,-20
  region: -30,-20 -30,20 30,20 30,-20
Top Overlay:
  lines w6: 0,-25 0,-10 ; 0,24 0,11 ; 0,11 6,11 6,-9 -6,-9 -6,11 0,11 ; -55,-25 -55,25 55,25 55,-25 -55,-25
Mechanical 14:
  text "2" at 20,0 h25
  text "1" at -40,0 h25
Mechanical 16:
  region: -56,-25 -56,27 56,27 56,-25
  lines w6: 0,-25 0,-10 ; 0,24 0,11 ; 0,11 6,11 6,-9 -6,-9 -6,11 0,11 ; -55,-25 -55,25 55,25 55,-25 -55,-25
3D body: height 150, standoff 0, extent -56,-25 56,27

## SEAM [mm]
pads (402):
  round 1.27 hole 1.27 unplated: 401(27.191,0) 402(-27.191,-3.048)
  round 0.64 smd: A1(24.765,5.715) A2(23.495,5.715) A3(22.225,5.715) A4(20.955,5.715) A5(19.685,5.715) A6(18.415,5.715) A7(17.145,5.715) A8(15.875,5.715) A9(14.605,5.715) A10(13.335,5.715) A11(12.065,5.715) A12(10.795,5.715) A13(9.525,5.715) A14(8.255,5.715) A15(6.985,5.715) A16(5.715,5.715) A17(4.445,5.715) A18(3.175,5.715) A19(1.905,5.715) A20(0.635,5.715) A21(-0.635,5.715) A22(-1.905,5.715) A23(-3.175,5.715) A24(-4.445,5.715) A25(-5.715,5.715) A26(-6.985,5.715) A27(-8.255,5.715) A28(-9.525,5.715) A29(-10.795,5.715) A30(-12.065,5.715) A31(-13.335,5.715) A32(-14.605,5.715) A33(-15.875,5.715) A34(-17.145,5.715) A35(-18.415,5.715) A36(-19.685,5.715) A37(-20.955,5.715) A38(-22.225,5.715) A39(-23.495,5.715) A40(-24.765,5.715) B1(24.765,4.445) B2(23.495,4.445) B3(22.225,4.445) B4(20.955,4.445) B5(19.685,4.445) B6(18.415,4.445) B7(17.145,4.445) B8(15.875,4.445) B9(14.605,4.445) B10(13.335,4.445) B11(12.065,4.445) B12(10.795,4.445) B13(9.525,4.445) B14(8.255,4.445) B15(6.985,4.445) B16(5.715,4.445) B17(4.445,4.445) B18(3.175,4.445) B19(1.905,4.445) B20(0.635,4.445) B21(-0.635,4.445) B22(-1.905,4.445) B23(-3.175,4.445) B24(-4.445,4.445) B25(-5.715,4.445) B26(-6.985,4.445) B27(-8.255,4.445) B28(-9.525,4.445) B29(-10.795,4.445) B30(-12.065,4.445) B31(-13.335,4.445) B32(-14.605,4.445) B33(-15.875,4.445) B34(-17.145,4.445) B35(-18.415,4.445) B36(-19.685,4.445) B37(-20.955,4.445) B38(-22.225,4.445) B39(-23.495,4.445) B40(-24.765,4.445) C1(24.765,3.175) C2(23.495,3.175) C3(22.225,3.175) C4(20.955,3.175) C5(19.685,3.175) C6(18.415,3.175) C7(17.145,3.175) C8(15.875,3.175) C9(14.605,3.175) C10(13.335,3.175) C11(12.065,3.175) C12(10.795,3.175) C13(9.525,3.175) C14(8.255,3.175) C15(6.985,3.175) C16(5.715,3.175) C17(4.445,3.175) C18(3.175,3.175) C19(1.905,3.175) C20(0.635,3.175) C21(-0.635,3.175) C22(-1.905,3.175) C23(-3.175,3.175) C24(-4.445,3.175) C25(-5.715,3.175) C26(-6.985,3.175) C27(-8.255,3.175) C28(-9.525,3.175) C29(-10.795,3.175) C30(-12.065,3.175) C31(-13.335,3.175) C32(-14.605,3.175) C33(-15.875,3.175) C34(-17.145,3.175) C35(-18.415,3.175) C36(-19.685,3.175) C37(-20.955,3.175) C38(-22.225,3.175) C39(-23.495,3.175) C40(-24.765,3.175) D1(24.765,1.905) D2(23.495,1.905) D3(22.225,1.905) D4(20.955,1.905) D5(19.685,1.905) D6(18.415,1.905) D7(17.145,1.905) D8(15.875,1.905) D9(14.605,1.905) D10(13.335,1.905) D11(12.065,1.905) D12(10.795,1.905) D13(9.525,1.905) D14(8.255,1.905) D15(6.985,1.905) D16(5.715,1.905) D17(4.445,1.905) D18(3.175,1.905) D19(1.905,1.905) D20(0.635,1.905) D21(-0.635,1.905) D22(-1.905,1.905) D23(-3.175,1.905) D24(-4.445,1.905) D25(-5.715,1.905) D26(-6.985,1.905) D27(-8.255,1.905) D28(-9.525,1.905) D29(-10.795,1.905) D30(-12.065,1.905) D31(-13.335,1.905) D32(-14.605,1.905) D33(-15.875,1.905) D34(-17.145,1.905) D35(-18.415,1.905) D36(-19.685,1.905) D37(-20.955,1.905) D38(-22.225,1.905) D39(-23.495,1.905) D40(-24.765,1.905) E1(24.765,0.635) E2(23.495,0.635) E3(22.225,0.635) E4(20.955,0.635) E5(19.685,0.635) E6(18.415,0.635) E7(17.145,0.635) E8(15.875,0.635) E9(14.605,0.635) E10(13.335,0.635) E11(12.065,0.635) E12(10.795,0.635) E13(9.525,0.635) E14(8.255,0.635) E15(6.985,0.635) E16(5.715,0.635) E17(4.445,0.635) E18(3.175,0.635) E19(1.905,0.635) E20(0.635,0.635) E21(-0.635,0.635) E22(-1.905,0.635) E23(-3.175,0.635) E24(-4.445,0.635) E25(-5.715,0.635) E26(-6.985,0.635) E27(-8.255,0.635) E28(-9.525,0.635) E29(-10.795,0.635) E30(-12.065,0.635) E31(-13.335,0.635) E32(-14.605,0.635) E33(-15.875,0.635) E34(-17.145,0.635) E35(-18.415,0.635) E36(-19.685,0.635) E37(-20.955,0.635) E38(-22.225,0.635) E39(-23.495,0.635) E40(-24.765,0.635) F1(24.765,-0.635) F2(23.495,-0.635) F3(22.225,-0.635) F4(20.955,-0.635) F5(19.685,-0.635) F6(18.415,-0.635) F7(17.145,-0.635) F8(15.875,-0.635) F9(14.605,-0.635) F10(13.335,-0.635) F11(12.065,-0.635) F12(10.795,-0.635) F13(9.525,-0.635) F14(8.255,-0.635) F15(6.985,-0.635) F16(5.715,-0.635) F17(4.445,-0.635) F18(3.175,-0.635) F19(1.905,-0.635) F20(0.635,-0.635) F21(-0.635,-0.635) F22(-1.905,-0.635) F23(-3.175,-0.635) F24(-4.445,-0.635) F25(-5.715,-0.635) F26(-6.985,-0.635) F27(-8.255,-0.635) F28(-9.525,-0.635) F29(-10.795,-0.635) F30(-12.065,-0.635) F31(-13.335,-0.635) F32(-14.605,-0.635) F33(-15.875,-0.635) F34(-17.145,-0.635) F35(-18.415,-0.635) F36(-19.685,-0.635) F37(-20.955,-0.635) F38(-22.225,-0.635) F39(-23.495,-0.635) F40(-24.765,-0.635) G1(24.765,-1.905) G2(23.495,-1.905) G3(22.225,-1.905) G4(20.955,-1.905) G5(19.685,-1.905) G6(18.415,-1.905) G7(17.145,-1.905) G8(15.875,-1.905) G9(14.605,-1.905) G10(13.335,-1.905) G11(12.065,-1.905) G12(10.795,-1.905) G13(9.525,-1.905) G14(8.255,-1.905) G15(6.985,-1.905) G16(5.715,-1.905) G17(4.445,-1.905) G18(3.175,-1.905) G19(1.905,-1.905) G20(0.635,-1.905) G21(-0.635,-1.905) G22(-1.905,-1.905) G23(-3.175,-1.905) G24(-4.445,-1.905) G25(-5.715,-1.905) G26(-6.985,-1.905) G27(-8.255,-1.905) G28(-9.525,-1.905) G29(-10.795,-1.905) G30(-12.065,-1.905) G31(-13.335,-1.905) G32(-14.605,-1.905) G33(-15.875,-1.905) G34(-17.145,-1.905) G35(-18.415,-1.905) G36(-19.685,-1.905) G37(-20.955,-1.905) G38(-22.225,-1.905) G39(-23.495,-1.905) G40(-24.765,-1.905) H1(24.765,-3.175) H2(23.495,-3.175) H3(22.225,-3.175) H4(20.955,-3.175) H5(19.685,-3.175) H6(18.415,-3.175) H7(17.145,-3.175) H8(15.875,-3.175) H9(14.605,-3.175) H10(13.335,-3.175) H11(12.065,-3.175) H12(10.795,-3.175) H13(9.525,-3.175) H14(8.255,-3.175) H15(6.985,-3.175) H16(5.715,-3.175) H17(4.445,-3.175) H18(3.175,-3.175) H19(1.905,-3.175) H20(0.635,-3.175) H21(-0.635,-3.175) H22(-1.905,-3.175) H23(-3.175,-3.175) H24(-4.445,-3.175) H25(-5.715,-3.175) H26(-6.985,-3.175) H27(-8.255,-3.175) H28(-9.525,-3.175) H29(-10.795,-3.175) H30(-12.065,-3.175) H31(-13.335,-3.175) H32(-14.605,-3.175) H33(-15.875,-3.175) H34(-17.145,-3.175) H35(-18.415,-3.175) H36(-19.685,-3.175) H37(-20.955,-3.175) H38(-22.225,-3.175) H39(-23.495,-3.175) H40(-24.765,-3.175) J1(24.765,-4.445) J2(23.495,-4.445) J3(22.225,-4.445) J4(20.955,-4.445) J5(19.685,-4.445) J6(18.415,-4.445) J7(17.145,-4.445) J8(15.875,-4.445) J9(14.605,-4.445) J10(13.335,-4.445) J11(12.065,-4.445) J12(10.795,-4.445) J13(9.525,-4.445) J14(8.255,-4.445) J15(6.985,-4.445) J16(5.715,-4.445) J17(4.445,-4.445) J18(3.175,-4.445) J19(1.905,-4.445) J20(0.635,-4.445) J21(-0.635,-4.445) J22(-1.905,-4.445) J23(-3.175,-4.445) J24(-4.445,-4.445) J25(-5.715,-4.445) J26(-6.985,-4.445) J27(-8.255,-4.445) J28(-9.525,-4.445) J29(-10.795,-4.445) J30(-12.065,-4.445) J31(-13.335,-4.445) J32(-14.605,-4.445) J33(-15.875,-4.445) J34(-17.145,-4.445) J35(-18.415,-4.445) J36(-19.685,-4.445) J37(-20.955,-4.445) J38(-22.225,-4.445) J39(-23.495,-4.445) J40(-24.765,-4.445) K1(24.765,-5.715) K2(23.495,-5.715) K3(22.225,-5.715) K4(20.955,-5.715) K5(19.685,-5.715) K6(18.415,-5.715) K7(17.145,-5.715) K8(15.875,-5.715) K9(14.605,-5.715) K10(13.335,-5.715) K11(12.065,-5.715) K12(10.795,-5.715) K13(9.525,-5.715) K14(8.255,-5.715) K15(6.985,-5.715) K16(5.715,-5.715) K17(4.445,-5.715) K18(3.175,-5.715) K19(1.905,-5.715) K20(0.635,-5.715) K21(-0.635,-5.715) K22(-1.905,-5.715) K23(-3.175,-5.715) K24(-4.445,-5.715) K25(-5.715,-5.715) K26(-6.985,-5.715) K27(-8.255,-5.715) K28(-9.525,-5.715) K29(-10.795,-5.715) K30(-12.065,-5.715) K31(-13.335,-5.715) K32(-14.605,-5.715) K33(-15.875,-5.715) K34(-17.145,-5.715) K35(-18.415,-5.715) K36(-19.685,-5.715) K37(-20.955,-5.715) K38(-22.225,-5.715) K39(-23.495,-5.715) K40(-24.765,-5.715)
Top Overlay:
  lines w0.254: -28.397,-8.484 28.397,-8.484 28.397,-1.27 29.286,-1.27 29.286,1.27 28.397,1.27 28.397,8.484 -28.397,8.484 -28.397,-8.484
  text "A" at 26.226,5.346 h0.89
  text "B" at 26.147,4.119 h0.89
  text "K" at 26.013,-6.587 h0.89
  text "C" at 26.124,2.827 h0.89
  text "D" at 26.048,1.475 h0.89
  text "E" at 25.947,-0.074 h0.89
  text "F" at 26.002,-1.403 h0.89
  text "G" at 26.17,-2.561 h0.89
  text "H" at 26.104,-3.932 h0.89
  text "J" at 26.104,-5.172 h0.89
  text "40" at -25.146,-7.747 h0.89
  text "35" at -18.669,-7.747 h0.89
  text "30" at -12.446,-7.747 h0.89
  text "25" at -6.096,-7.747 h0.89
  text "20" at 0.254,-7.747 h0.89
  text "15" at 6.731,-7.747 h0.89
  text "10" at 13.081,-7.747 h0.89
  text "5" at 19.558,-7.747 h0.89
  text "1" at 24.641,-7.702 h0.89
Mechanical 5:
  lines w0.254: -27.889,-7.976 -27.889,7.976 27.889,7.976 27.889,0.762 28.778,0.762 28.778,-0.762 27.889,-0.762 27.889,-7.976 -27.889,-7.976

## so_8 [mm] "SO_8"
pads (8):
  rect 1.27x0.5 smd: 1(-3,1.905) 2(-3,0.635) 3(-3,-0.635) 4(-3,-1.905) 5(3,-1.905) 6(3,-0.635) 7(3,0.635) 8(3,1.905)
Top Overlay:
  circle w0.025: c-1.506,1.954 r0.351
  lines w0.025: -2,-2.5 -2,2.5 2,2.5 2,-2.5 -2,-2.5
  text ".Designator" at -1.143,2.857 h0.64
Mechanical 5:
  lines w0.025: -2,-2.5 -2,2.5 2,2.5 2,-2.5 -2,-2.5 ; -1.857,1.954 cw(c-1.506,1.954) -1.506,2.305 cw(c-1.506,1.954) -1.155,1.954 cw(c-1.506,1.954) -1.506,1.603 cw(c-1.506,1.954) -1.857,1.954
  text "U8" at 1.058,1.926 h0.64
Mechanical 14:
  text "6" at 2.797,-0.635 h0.51
  text "1" at -3.203,1.905 h0.51
  text "8" at 2.797,1.905 h0.51
  text "2" at -3.203,0.635 h0.51
  text "5" at 2.797,-1.905 h0.51
  text "4" at -3.203,-1.905 h0.51
  text "3" at -3.203,-0.635 h0.51
  text "7" at 2.797,0.635 h0.51
Mechanical 16:
  lines w0.025: -3.64,-2.5 -3.64,2.5 ; -3.64,-2.5 3.64,-2.5 ; -3.64,-2.5 -3.64,2.5 ; -3.64,-2.5 3.64,-2.5 ; -3.64,2.5 3.64,2.5 ; -3.64,2.5 3.64,2.5 ; 3.64,-2.5 3.64,2.5 ; 3.64,-2.5 3.64,2.5 ; -2,-2.5 -2,2.5 2,2.5 2,-2.5 -2,-2.5

## SOIC_8 [mil] "SOIC_8"
pads (8):
  oval 25.2x79.9 smd: 1(-75,-107.5) 2(-25,-107.5) 3(25,-107.5) 4(75,-107.5) 5(75,107.5) 6(25,107.5) 7(-25,107.5) 8(-75,107.5)
Top Overlay:
  lines w10: -100,-154.5 -100,-24.5 ccw(c-105.01,0.5) -100,25.5 -100,155.5 100,155.5 100,-154.5 -100,-154.5
Mechanical 5:
  lines w10: -100,-154.5 100,-154.5 100,155.5 -100,155.5 -100,25.5 cw(c-105.01,0.5) -100,-24.5 -100,-154.5
Mechanical 14:
  text "6" at 25,87.5 h50
  text "7" at -25,87.5 h50
  text "3" at 25,-127.5 h50
  text "1" at -75,-127.5 h50
  text "2" at -25,-127.5 h50
  text "4" at 75,-127.5 h50
  text "5" at 75,87.5 h50
  text "8" at -75,87.5 h50
Mechanical 16:
  region: -100,-144.5 -100,145.5 100,145.5 100,-144.5
  lines w1: -100,-145 -100,145.5 100,145.5 100,-145 -100,-145
3D body: height 150, standoff 0, extent -100,-144.5 100,145.5

## sop8-50-150 [mil] "SOP8-50-150"
pads (8):
  rect 25x70 smd: 1(-75,-105) 2(-25,-105) 3(25,-105) 4(75,-105) 5(75,105) 6(25,105) 7(-25,105) 8(-75,105)
Top Overlay:
  lines w10: -100,-80 -100,-18 -73.09,-18 -73.09,18 -100,18 -100,80 ; 100,-80 100,80
Mechanical 5:
  lines w10: -100,-80 -100,-18 -73.09,-18 -73.09,18 -100,18 -100,80 ; 100,-80 100,80
Mechanical 14:
  text "5" at 79,105 h10
  text "8" at -71,105 h10
  text "4" at 79,-105 h10
  text "3" at 29,-105 h10
  text "6" at 29,105 h10
  text "2" at -21,-105 h10
  text "1" at -71,-105 h10
  text "7" at -21,105 h10
Mechanical 16:
  region: -100,-122 100,-122 100,122 -100,122
  lines w1: -100,-122 100,-122 100,122 -100,122 -100,-122
3D body: height 150, standoff 0, extent -100,-122 100,122

## SOT23 [mil] "SOT23"
pads (3):
  rect 40x50 smd: 1(-40,-45) 2(40,-45) 3(0,45)
Top Overlay:
  circle w8: c-39.8,-85.4 r5
  lines w8: -70,-27.6 -70,27.6 -39.4,27.6 ; 39.4,27.6 70,27.6 70,-27.6
Mechanical 5:
  lines w8: -70,-27.6 -70,27.6 -39.4,27.6 ; 39.4,27.6 70,27.6 70,-27.6 ; -44.8,-85.4 cw(c-39.8,-85.4) -39.8,-80.4 cw(c-39.8,-85.4) -34.8,-85.4 cw(c-39.8,-85.4) -39.8,-90.4 cw(c-39.8,-85.4) -44.8,-85.4
Mechanical 14:
  text "3" at 0,38.7 h15.75
  text "1" at -40,-51.3 h15.75
  text "2" at 40,-51.3 h15.75
Mechanical 16:
  region: -49.2,-49.2 -49.2,-27.6 -70,-27.6 -70,27.6 -11.8,27.6 -11.8,49.2 11.8,49.2 11.8,27.6 70,27.6 70,-27.6 49.2,-27.6 49.2,-49.2
  lines w8: -70,-27.6 -49.2,-27.6 -49.2,-49.2 49.2,-49.2 49.2,-27.6 70,-27.6 70,27.6 11.8,27.6 11.8,49.2 -11.8,49.2 -11.8,27.6 -70,27.6 -70,-27.6
3D body: height 150, standoff 0, extent -70,-49.2 70,49.2

## testpoint_via [mil] "TESTPOINT_VIA"
pads (1):
  round 39 / inner round 20 / far side round 39 hole 12: 1(0,0)
Top Overlay:
  lines w1: -20,-20 -20,20 20,20 20,-20 -20,-20
Mechanical 5:
  lines w1: -20,-20 -20,20 20,20 20,-20 -20,-20
Mechanical 14:
  text "1" at 0,8 h20
Mechanical 16:
  region: -20,-20 20,-20 20,20 -20,20
  pour cut-out: -20,-20 20,-20 20,20 -20,20
  lines w1: -20,-20 -20,20 20,20 20,-20 -20,-20
3D body: height 150, standoff 0, extent -20,-20 20,20

## TSSOP_14P [mm] "TSSOP_14P"
pads (14):
  rect 1.6x0.35 smd: 1(-3,1.95) 2(-3,1.3) 3(-3,0.65) 4(-3,0) 5(-3,-0.65) 6(-3,-1.3) 7(-3,-1.95) 8(3,-1.95) 9(3,-1.3) 10(3,-0.65) 11(3,0) 12(3,0.65) 13(3,1.3) 14(3,1.95)
Top Overlay:
  lines w0.025: -1.792,1.708 -1.789,1.708 -1.016,2.481
Mechanical 5:
  lines w0.025: -1.792,1.708 -1.789,1.708 -1.016,2.481
Mechanical 14:
  text "13" at 2.594,1.3 h0.51
  text "10" at 2.594,-0.65 h0.51
  text "1" at -3.203,1.95 h0.51
  text "4" at -3.203,0 h0.51
  text "7" at -3.203,-1.95 h0.51
  text "9" at 2.797,-1.3 h0.51
  text "11" at 2.594,0 h0.51
  text "12" at 2.594,0.65 h0.51
  text "2" at -3.203,1.3 h0.51
  text "8" at 2.797,-1.95 h0.51
  text "3" at -3.203,0.65 h0.51
  text "6" at -3.203,-1.3 h0.51
  text "5" at -3.203,-0.65 h0.51
  text "14" at 2.594,1.95 h0.51
Mechanical 16:
  lines w0.025: -3.605,-2.5 -3.605,2.5 ; -3.605,-2.5 3.605,-2.5 ; -3.605,-2.5 -3.605,2.5 ; -3.605,-2.5 3.605,-2.5 ; -3.605,2.5 3.605,2.5 ; -3.605,2.5 3.605,2.5 ; 3.605,-2.5 3.605,2.5 ; 3.605,-2.5 3.605,2.5 ; -2.25,-2.5 -2.25,2.5 2.25,2.5 2.25,-2.5 -2.25,-2.5